# Altium schematic symbol library XSTR.SchLib: 44 symbols
Pins are listed as number, name and electrical type; pins without a type are passive.

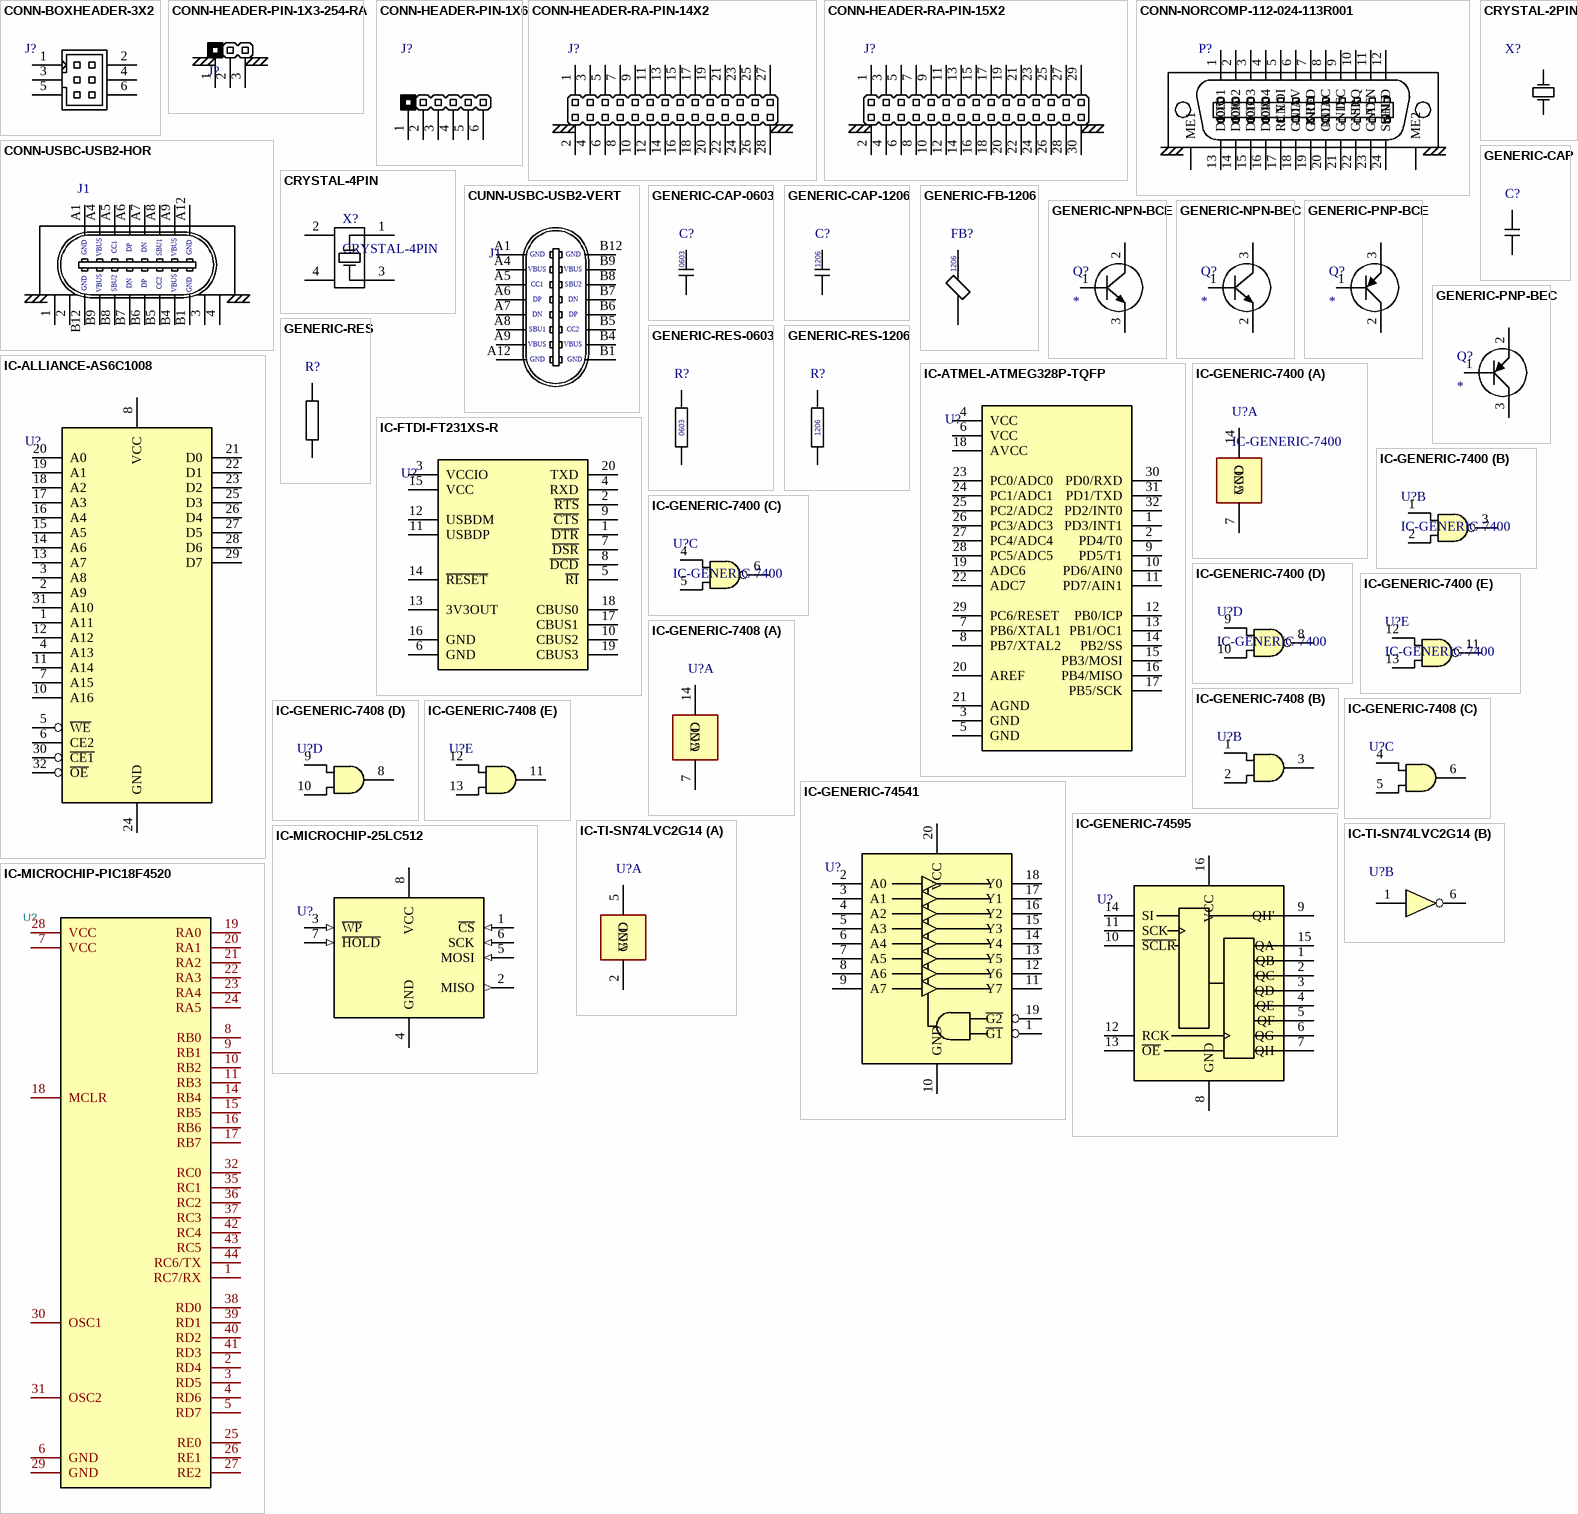
[diagram p0: symbols CONN-BOXHEADER-3X2 to IC-TI-SN74LVC2G14]

## CONN-BOXHEADER-3X2
designator J?, comment BOXHEADER-3X2  (value not drawn)
pins: 1 +, 2 -, 3 -, 4 -, 5 -, 6 -

## CONN-HEADER-PIN-1X3-254-RA
designator J?  (value not drawn)
footprint HEADER-1X3-245-RA
pins: 1 +, 2 +, 3 +

## CONN-HEADER-PIN-1X6
designator J?  (value not drawn)
footprint HEADER-1X6
pins: 1 +, 2 +, 3 +, 4 +, 5 +, 6 +

## CONN-HEADER-RA-PIN-14X2
designator J?  (value not drawn)
footprint HEADER-2X14-RA
pins: 1 +, 2 -, 3 -, 4 -, 5 -, 6 -, 7 +, 8 -, 9 -, 10 -, 11 -, 12 -, 13 +, 14 -, 15 -, 16 -, 17 -, 18 -, 19 +, 20 -, 21 -, 22 -, 23 -, 24 -, 25 +, 26 -, 27 -, 28 -

## CONN-HEADER-RA-PIN-15X2
designator J?  (value not drawn)
footprint HEADER-2X14-RA
pins: 1 +, 2 -, 3 -, 4 -, 5 -, 6 -, 7 +, 8 -, 9 -, 10 -, 11 -, 12 -, 13 +, 14 -, 15 -, 16 -, 17 -, 18 -, 19 +, 20 -, 21 -, 22 -, 23 -, 24 -, 25 +, 26 -, 27 -, 28 -, 29 -, 30 -

## CONN-NORCOMP-112-024-113R001
designator P?  (value not drawn)
Supplier 1: Digikey; Supplier Part Number 1: 1024RMA-ND
footprint CONN-NORCOMP-112-024-113R001 (GPIB MALE RA)
pins: 1 DIO1, 2 DIO2, 3 DIO3, 4 DIO4, 5 EOI, 6 DAV, 7 NRFD, 8 NDAC, 9 IFC, 10 SRQ, 11 ATN, 12 SHLD, 13 DIO5, 14 DIO6, 15 DIO7, 16 DIO8, 17 REN, 18 GND, 19 GND, 20 GND, 21 GND, 22 GND, 23 GND, 24 SGND, ME1, ME2

## CONN-USBC-USB2-HOR
designator J1  (value not drawn)
footprint CONN-GCT-USB4085
pins: 1, 2, 3, 4, A1, A4, A5, A6, A7, A8, A9, A12, B1, B4, B5, B6, B7, B8, B9, B12
text: GND; VBUS; CC1; DP; DN; SBU1; SBU2; CC2

## CRYSTAL-2PIN
designator X?  (value not drawn)
CRYSTAL 2 PIN GENERIC
footprint XTAL-ABRACON-ABM3
pins: 1 OSC1, 2 OSC2

## CRYSTAL-4PIN
designator X?
CRYSTAL 4 PIN PACKAGE  PIN1,3 CRYSTAL 2,4 BODY
pins: 1 OSC1, 2 GND, 3 OSC2, 4 GND

## CUNN-USBC-USB2-VERT
designator J1  (value not drawn)
pins: A1, A4, A5, A6, A7, A8, A9, A12, B1, B4, B5, B6, B7, B8, B9, B12
text: GND; VBUS; CC1; SBU2; DP; DN; SBU1; CC2

## GENERIC-CAP
designator C?  (value not drawn)
pins: 1, 2

## GENERIC-CAP-0603
designator C?  (value not drawn)
footprint CAP0603 (Chip Capacitor, 2-Leads, Body 1.60x0.80mm, IPC Medium Density)
pins: 1, 2
text: 0603

## GENERIC-CAP-1206
designator C?  (value not drawn)
footprint CAP1206 (CAPACITOR, CHIP 1206 (3216) 0.85MM THICK)
pins: 1, 2
text: 1206

## GENERIC-FB-1206
designator FB?  (value not drawn)
footprint FB1206 (FERRITE BEAD, CHIP 1206 (3216))
pins: 1, 2
text: 1206

## GENERIC-NPN-BCE
designator Q?
pins: 1 B, 2 C, 3 E

## GENERIC-NPN-BEC
designator Q?
pins: 1 B, 2 E, 3 C

## GENERIC-PNP-BCE
designator Q?
pins: 1 B, 2 C, 3 E

## GENERIC-PNP-BEC
designator Q?
pins: 1 B, 2 E, 3 C

## GENERIC-RES
designator R?  (value not drawn)
pins: 1, 2

## GENERIC-RES-0603
designator R?  (value not drawn)
footprint RES0603 (Chip Resistor, 2-Leads, Body 1.60x0.80mm, IPC Medium Density)
pins: 1, 2
text: 0603

## GENERIC-RES-1206
designator R?  (value not drawn)
footprint RES1206 (RESISTOR, CHIP 1206 (3216))
pins: 1, 2
text: 1206

## IC-ALLIANCE-AS6C1008
designator U?  (value not drawn)
pins: 1 A11, 2 A9, 3 A8, 4 A13, 5 ~{WE} (power), 6 CE2 (power), 7 A15, 8 VCC (power), 10 A16, 11 A14, 12 A12, 13 A7, 14 A6, 15 A5, 16 A4, 17 A3, 18 A2, 19 A1, 20 A0, 21 D0 (power), 22 D1 (power), 23 D2 (power), 24 GND (power), 25 D3 (power), 26 D4 (power), 27 D5 (power), 28 D6 (power), 29 D7 (power), 30 ~{CE1} (power), 31 A10, 32 ~{OE} (power)

## IC-ATMEL-ATMEG328P-TQFP
designator U?  (value not drawn)
pins: 1 PD3/INT1, 2 PD4/T0, 3 GND (power), 4 VCC (power), 5 GND (power), 6 VCC (power), 7 PB6/XTAL1, 8 PB7/XTAL2, 9 PD5/T1, 10 PD6/AIN0, 11 PD7/AIN1, 12 PB0/ICP, 13 PB1/OC1, 14 PB2/SS, 15 PB3/MOSI, 16 PB4/MISO, 17 PB5/SCK, 18 AVCC (power), 19 ADC6, 20 AREF (power), 21 AGND (power), 22 ADC7, 23 PC0/ADC0, 24 PC1/ADC1, 25 PC2/ADC2, 26 PC3/ADC3, 27 PC4/ADC4, 28 PC5/ADC5, 29 PC6/RESET, 30 PD0/RXD, 31 PD1/TXD, 32 PD2/INT0

## IC-FTDI-FT231XS-R
designator U?  (value not drawn)
footprint SO65P640X110-20N (TSSOP20 - PITCH 0.65MM, SPAN 6.4MM)
pins: 1 ~{DTR} (power), 2 ~{RTS} (power), 3 VCCIO (power), 4 RXD (power), 5 ~{RI} (power), 6 GND (power), 7 ~{DSR} (power), 8 ~{DCD} (power), 9 ~{CTS} (power), 10 CBUS2 (power), 11 USBDP (power), 12 USBDM (power), 13 3V3OUT (power), 14 ~{RESET} (power), 15 VCC (power), 16 GND (power), 17 CBUS1 (power), 18 CBUS0 (power), 19 CBUS3 (power), 20 TXD (power)

## IC-GENERIC-7400
designator U?
part A pins: 7 GND (power), 14 VCC (power)
part B pins: 1, 2, 3
part C pins: 4, 5, 6
part D pins: 8, 9, 10
part E pins: 11, 12, 13

## IC-GENERIC-7408
designator U?  (value not drawn)
part A pins: 7 GND (power), 14 VCC (power)
part B pins: 1, 2, 3
part C pins: 4, 5, 6
part D pins: 8, 9, 10
part E pins: 11, 12, 13

## IC-GENERIC-74541
designator U?  (value not drawn)
pins: 1 ~{G1} (power), 2 A0 (power), 3 A1 (power), 4 A2 (power), 5 A3 (power), 6 A4 (power), 7 A5 (power), 8 A6 (power), 9 A7 (power), 10 GND (power), 11 Y7 (power), 12 Y6 (power), 13 Y5 (power), 14 Y4 (power), 15 Y3 (power), 16 Y2 (power), 17 Y1 (power), 18 Y0 (power), 19 ~{G2} (power), 20 VCC (power)

## IC-GENERIC-74595
designator U?  (value not drawn)
pins: 1 QB (power), 2 QC (power), 3 QD (power), 4 QE (power), 5 QF (power), 6 QG (power), 7 QH (power), 8 GND (power), 9 QH' (power), 10 ~{SCLR} (power), 11 SCK (power), 12 RCK (power), 13 ~{OE} (power), 14 SI (power), 15 QA (power), 16 VCC (power)

## IC-MICROCHIP-25LC512
designator U?  (value not drawn)
footprint SO127P600-8N (SO8)
pins: 1 ~{CS} (in), 2 MISO (out), 3 ~{WP} (in), 4 GND (power), 5 MOSI (in), 6 SCK (in), 7 ~{HOLD} (in), 8 VCC (power)

## IC-MICROCHIP-PIC18F4520
designator U?, comment PIC18F4520  (value not drawn)
footprint QFP80P1200X1200-44N (TQFP80P1200X1200 44N)
pins: 1 RC7/RX, 2 RD4, 3 RD5, 4 RD6, 5 RD7, 6 GND, 7 VCC, 8 RB0, 9 RB1, 10 RB2, 11 RB3, 14 RB4, 15 RB5, 16 RB6, 17 RB7, 18 MCLR, 19 RA0, 20 RA1, 21 RA2, 22 RA3, 23 RA4, 24 RA5, 25 RE0, 26 RE1, 27 RE2, 28 VCC, 29 GND, 30 OSC1, 31 OSC2, 32 RC0, 35 RC1, 36 RC2, 37 RC3, 38 RD0, 39 RD1, 40 RD2, 41 RD3, 42 RC4, 43 RC5, 44 RC6/TX

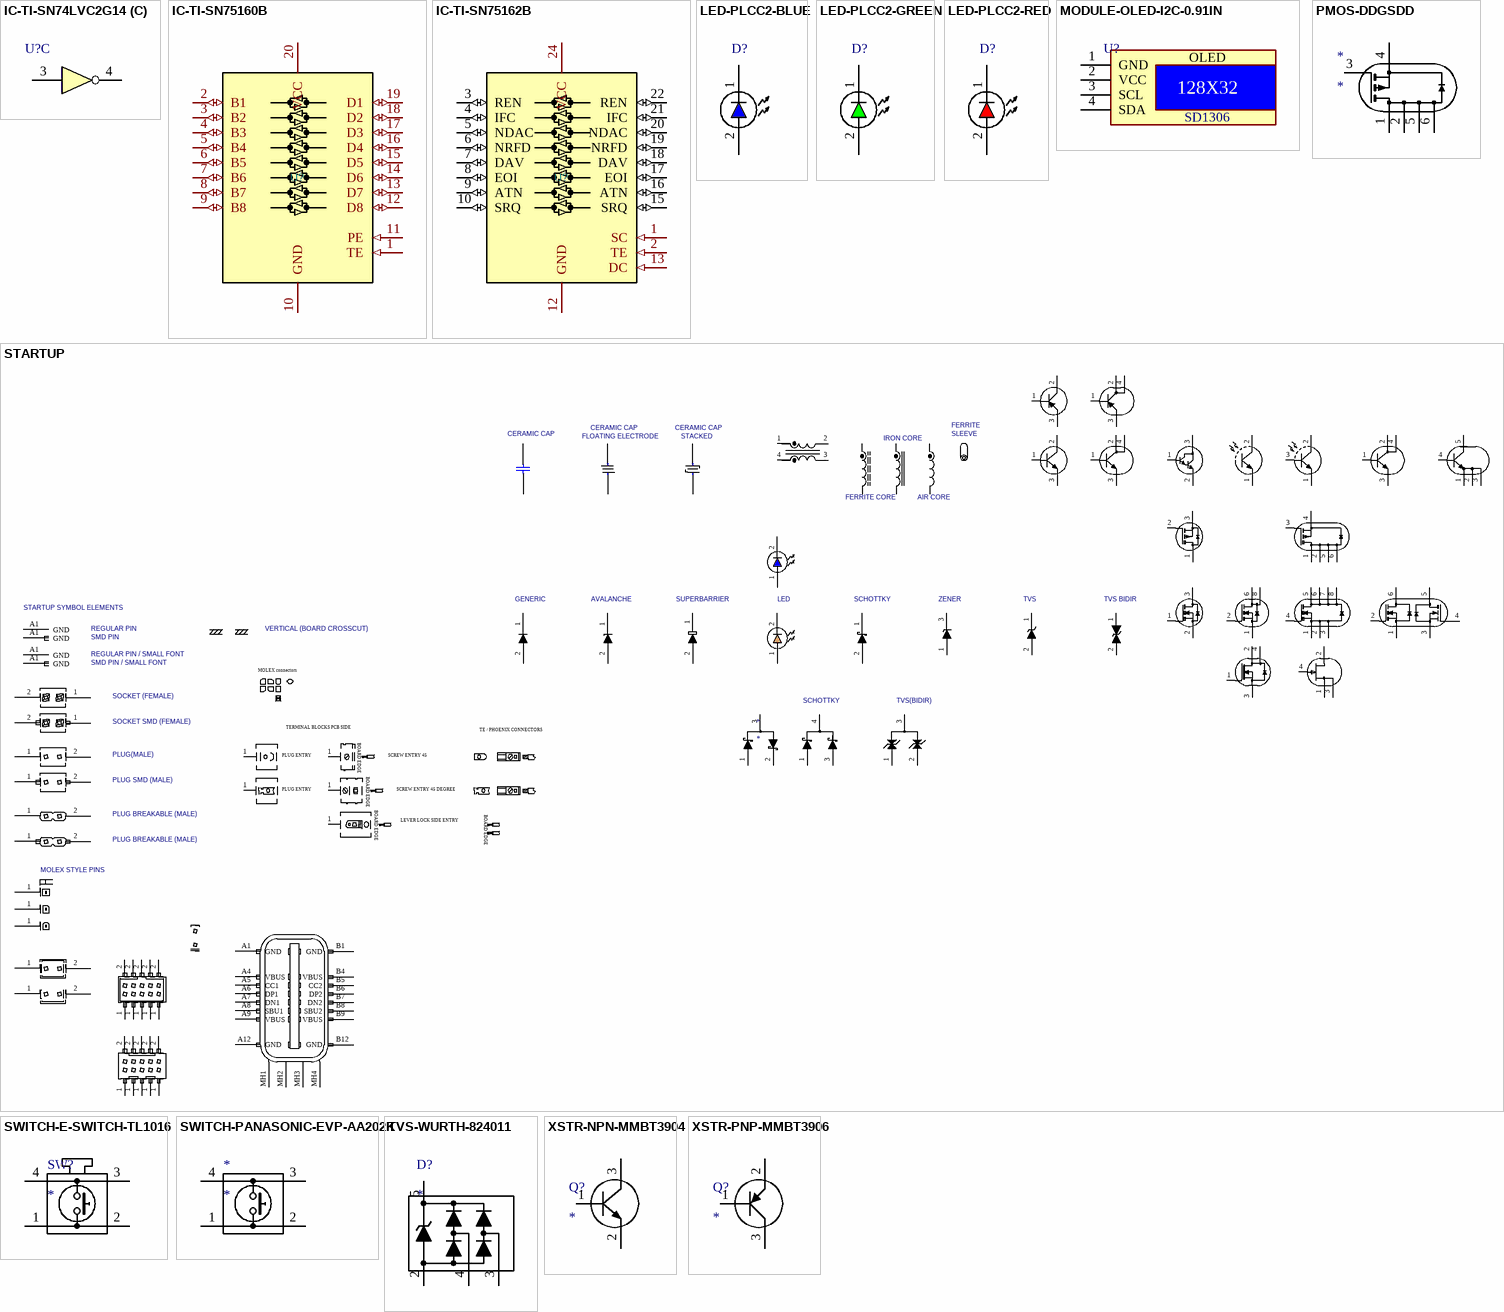
[diagram p1: symbols IC-TI-SN74LVC2G14 to XSTR-PNP-MMBT3906]

## IC-TI-SN74LVC2G14
designator U?  (value not drawn)
IC-GENERIC-7408IC-TI-SN74LVC2G14
footprint SOT23-6 (SOT23 PACKAGE, 6 PIN (SOT26))
part A pins: 2 GND (power), 5 VCC (power)
part B pins: 1, 6
part C pins: 3, 4

## IC-TI-SN75160B
designator U?, comment SN75160B  (value not drawn)
footprint SO127P1030-20N (SOIC, 20-LEADS, BODY 12.80X7.50MM, PITCH 1.27MM, IPC MEDIUM DENSITY)
pins: 1 TE (in), 2 B1 (io), 3 B2 (io), 4 B3 (io), 5 B4 (io), 6 B5 (io), 7 B6 (io), 8 B7 (io), 9 B8 (io), 10 GND, 11 PE (in), 12 D8 (io), 13 D7 (io), 14 D6 (io), 15 D5 (io), 16 D4 (io), 17 D3 (io), 18 D2 (io), 19 D1 (io), 20 VCC

## IC-TI-SN75162B
designator U?, comment SN75162B  (value not drawn)
footprint SO127P1030-24N (SOP, 24-LEADS, BODY 15.40X7.50MM, PITCH 1.27MM, IPC MEDIUM DENSITY)
pins: 1 SC (in), 2 TE (in), 3 REN (io), 4 IFC (io), 5 NDAC (io), 6 NRFD (io), 7 DAV (io), 8 EOI (io), 9 ATN (io), 10 SRQ (io), 12 GND, 13 DC (in), 15 SRQ (io), 16 ATN (io), 17 EOI (io), 18 DAV (io), 19 NRFD (io), 20 NDAC (io), 21 IFC (io), 22 REN (io), 24 VCC

## LED-PLCC2-BLUE
designator D?  (value not drawn)
footprint LED-PLCC2-BLUE (SMD Mono-color TOP LED, body 3.2x2.8mm)
pins: 1 A, 2 K

## LED-PLCC2-GREEN
designator D?  (value not drawn)
footprint LED-PLCC2-GREEN (SMD Mono-color TOP LED, body 3.2x2.8mm)
pins: 1 A, 2 K

## LED-PLCC2-RED
designator D?  (value not drawn)
footprint LED-PLCC2-RED (SMD Mono-color TOP LED, body 3.2x2.8mm)
pins: 1 A, 2 K

## MODULE-OLED-I2C-0.91IN
designator U?  (value not drawn)
pins: 1 GND, 2 VCC, 3 SCL, 4 SDA
text: OLED; 128X32; SD1306

## PMOS-DDGSDD
designator *
footprint SOT23-6 (SOT23 PACKAGE, 6 PIN (SOT26))
pins: 1 D, 2 D, 3 G1, 4 S, 5 D, 6 D

## STARTUP
designator *
pins: 1, 1, 1, 1, 1, 1, 1, 1, 1, 1 A, 1 A, 1 A, 1 K, 1 K, 1 K, 1 A, 1 K, 1 K, 1 K, 1 K, 1 A, 1, 1, 1, 1, 1, 1, 1, 1 B, 1 B, 1 B, 1, 1, 1 D, 1 D, 1 B, 1 B, 1 S, 1 S, 1 G1, 1 G1, 1 S1, 1 S, 1, 1, 1, 1, 1, 1, 1, 1, 1, 1, 1, 1, 1, 1, 1, 1, 1, 1 B, 1 E, 2, 2 K, 2 K, 2 A, 2 A, 2 A, 2 A, 2 A, 2 A, 2 A, 2 K, 2, 2, 2, 2, 2, 2, 2, 2 C, 2 C, 2 E, 2, 2, 2 D, 2 G, 2 C, 2 C, 2 G1, 2 S, 2 S, 2 D, 2 G1, 2 D, 2, 2, 2, 2, 2, 2, 2, 2, 2, 2, 2, 2, 2, 2, 2, 2, 2, 2 C, 2 E, 3 AK, 3 A, 3 AK, 3 K, 3, 3 E, 3 E, 3 C, 3, 3 G1, 3 S, 3 E, 3 E, 3 S, 3 D, 3 S, 3 S2, 3 S, 3 E, 3 E, 4 K, 4, 4 E, 4 S, 4 C, 4 G1, 4 D, 4 G2, 4 G, 4 E, 4 B, 5 D, 5 D, 5 D2, 5 C, 6 D, 6 D, 6 D, 6 D1, 7 D, 8 D, 8 D, A1 GND, A1 GND, A1 GND, A1 GND, A1 GND, A4 VBUS, A5 CC1, A6 DP1, A7 DN1, A8 SBU1, A9 VBUS, A12 GND, B1 GND, B4 VBUS, B5 CC2, B6 DP2, B7 DN2, B8 SBU2, B9 VBUS, B12 GND, MH1 MH, MH2 MH, MH3 MH, MH4 MH
text: FERRITE; CERAMIC CAP; SLEEVE; FLOATING ELECTRODE; STACKED; IRON CORE; FERRITE CORE; AIR CORE; GENERIC; AVALANCHE; SUPERBARRIER; LED; SCHOTTKY; ZENER; TVS; TVS BIDIR; STARTUP SYMBOL ELEMENTS; REGULAR PIN; VERTICAL (BOARD CROSSCUT); SMD PIN; REGULAR PIN / SMALL FONT; SMD PIN / SMALL FONT; MOLEX connectors; SOCKET (FEMALE); TVS(BIDIR); SOCKET SMD (FEMALE); TERMINAL BLOCKS PCB SIDE; TE / PHOENIX CONNECTORS; BOARD EDGE; PLUG(MALE); PLUG ENTRY; SCREW ENTRY 45; PLUG SMD (MALE); SCREW ENTRY 45 DEGREE; PLUG BREAKABLE (MALE); LEVER LOCK SIDE ENTRY; MOLEX STYLE PINS

## SWITCH-E-SWITCH-TL1016
designator SW?
footprint SWITCH-ESWITCH-TL1016
pins: 1, 2, 3, 4

## SWITCH-PANASONIC-EVP-AA202K
designator *
footprint SWITCH-PANASONIC-EVP-AA202K
pins: 1, 2, 3, 4

## TVS-WURTH-824011
designator D?
Supplier 1: Digikey; Supplier Part Number 1: 732-4465-1-ND
footprint SOT23-5 (SOT23 PACKAGE, 5 PIN (SOT25))
pins: 2 A, 3 A, 4 A, 5 A

## XSTR-NPN-MMBT3904
designator Q?
footprint SOT23 (SOT23 PACKAGE, 3 PIN)
pins: 1 B, 2 E, 3 C

## XSTR-PNP-MMBT3906
designator Q?
footprint SOT23 (SOT23 PACKAGE, 3 PIN)
pins: 1 B, 2 E, 3 C